# Altium footprint library SSOP.PcbLib: 2 footprints
Each footprint in its own frame and in the unit in brackets; x right, y up, seen from the top. Pads: shape width x height; smd on the part's side, far side on the other; paste and mask are expansions set on the pad; w line width, h text height; cw(c..) or ccw(c..) is an arc to the next point about the centre after c.
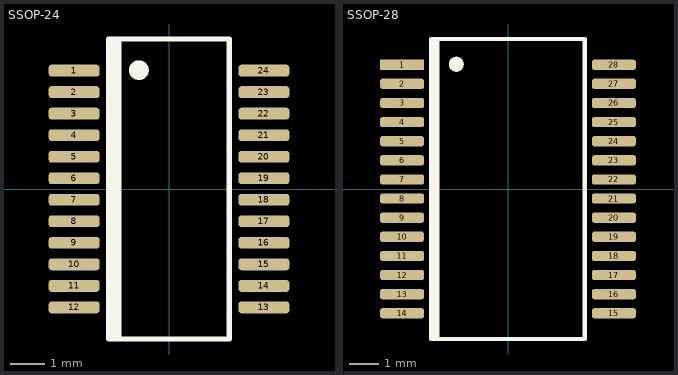
[diagram p0: the footprints below, top view; thin cyan lines are the x and y axes]

## SSOP-24 [mm]
pads (24):
  rrect50% 1.5x0.35 smd: 1(-2.8,3.492) 2(-2.8,2.857) 3(-2.8,2.222) 4(-2.8,1.587) 5(-2.8,0.953) 6(-2.8,0.318) 7(-2.8,-0.318) 8(-2.8,-0.953) 9(-2.8,-1.587) 10(-2.8,-2.222) 11(-2.8,-2.857) 12(-2.8,-3.492) 13(2.8,-3.492) 14(2.8,-2.857) 15(2.8,-2.222) 16(2.8,-1.587) 17(2.8,-0.953) 18(2.8,-0.318) 19(2.8,0.318) 20(2.8,0.953) 21(2.8,1.587) 22(2.8,2.222) 23(2.8,2.857) 24(2.8,3.492)
Top Overlay:
  circle w0.152: c-0.889,3.505 r0.072
  circle w0.152: c-0.889,3.505 r0.216
  rectangle: -1.778,-4.425 -1.397,4.425
  lines w0.152: -1.778,-4.425 -1.778,4.425 1.778,4.425 1.778,-4.425 -1.778,-4.425

## SSOP-28 [mm]
pads (28):
  rect 1.5x0.35 smd: 1(-3.6,4.225)
  rrect50% 1.5x0.35 smd: 2(-3.6,3.575) 3(-3.6,2.925) 4(-3.6,2.275) 5(-3.6,1.625) 6(-3.6,0.975) 7(-3.6,0.325) 8(-3.6,-0.325) 9(-3.6,-0.975) 10(-3.6,-1.625) 11(-3.6,-2.275) 12(-3.6,-2.925) 13(-3.6,-3.575) 14(-3.6,-4.225) 15(3.6,-4.225) 16(3.6,-3.575) 17(3.6,-2.925) 18(3.6,-2.275) 19(3.6,-1.625) 20(3.6,-0.975) 21(3.6,-0.325) 22(3.6,0.325) 23(3.6,0.975) 24(3.6,1.625) 25(3.6,2.275) 26(3.6,2.925) 27(3.6,3.575) 28(3.6,4.225)
Top Overlay:
  circle w0.152: c-1.759,4.242 r0.18
  circle w0.152: c-1.759,4.242 r0.057
  rectangle: -2.616,-5.1 -2.337,5.1
  lines w0.152: -2.616,-5.1 -2.616,5.1 2.616,5.1 2.616,-5.1 -2.616,-5.1
3D body: height 1.95, standoff -0.05, extent -3.906,-5.1 3.906,5.1